# EAGLE library part RDOTR1A (library radiotubes)
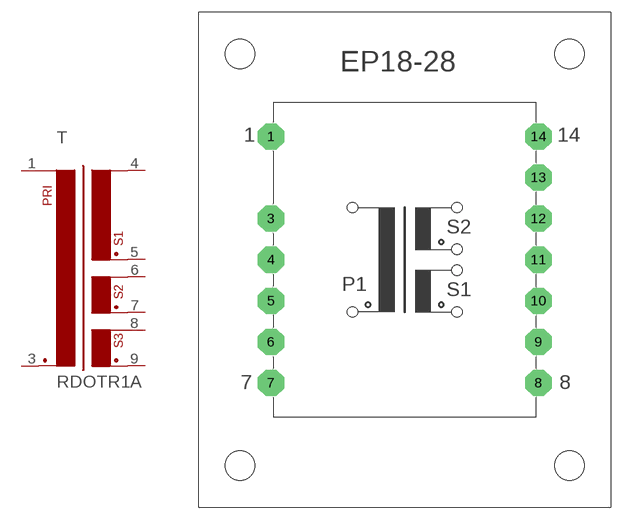
[diagram p99: symbol with the pads of RDOTRAFO; footprint RDOTRAFO]

Designator prefix T

## RDOTR1A  [RDOTRAFO]
1  L  pas
3  N  pas
4  A1  pas
5  A2  pas
6  GH  pas
7  GH'  pas
8  H  pas
9  H'  pas

## Footprint RDOTRAFO (pad centres in mm)
drill 1.118 pad 3.175 octagon: 1 -16.256,14.986; 3 -16.256,5.004; 4 -16.256,0; 5 -16.256,-5.004; 6 -16.256,-10.008; 7 -16.256,-14.986; 8 16.256,-14.986; 9 16.256,-10.008; 10 16.256,-5.004; 11 16.256,0; 12 16.256,5.004; 13 16.256,10.008; 14 16.256,14.986